# Altium footprint library MQ136.PcbLib: 1 footprints
Each footprint in its own frame and in the unit in brackets; x right, y up, seen from the top. Pads: shape width x height; smd on the part's side, far side on the other; paste and mask are expansions set on the pad; w line width, h text height; cw(c..) or ccw(c..) is an arc to the next point about the centre after c.
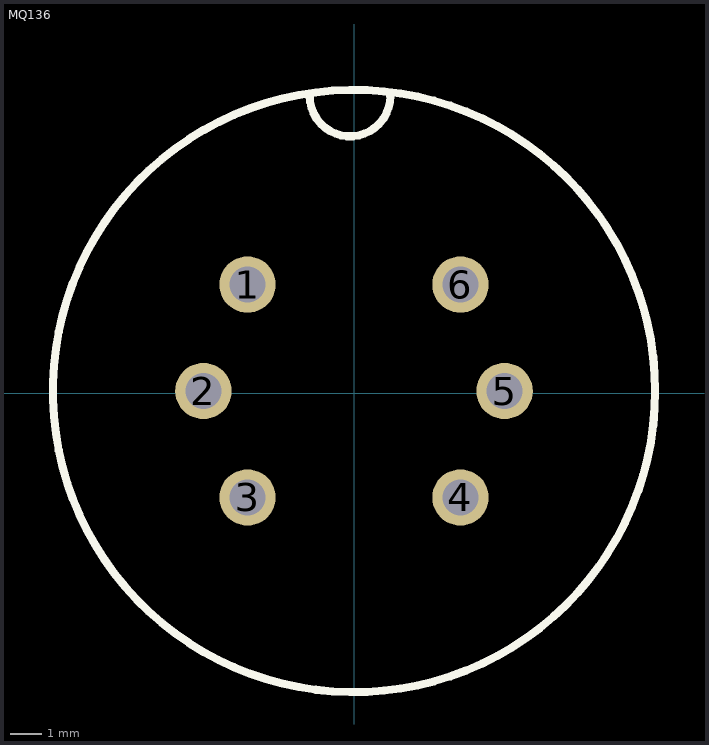
[diagram p0: the footprint, top view; thin cyan lines are the x and y axes]

## MQ136 [mil]
pads (6):
  round 70 hole 45: 1(-132.42,135.24) 2(-187.19,3.01) 3(-132.42,-129.23) 4(132.05,-129.23) 5(186.83,3.01) 6(132.05,135.24)
Top Overlay:
  circle w10: c-0.17,3.01 r374.02
  lines w10: -55.12,369.29 ccw(c-5.12,369.29) 44.88,369.29